# Altium integrated library Texas Instruments Power Management PWM Controller.IntLib: 1227 symbols (part 32 of 49)
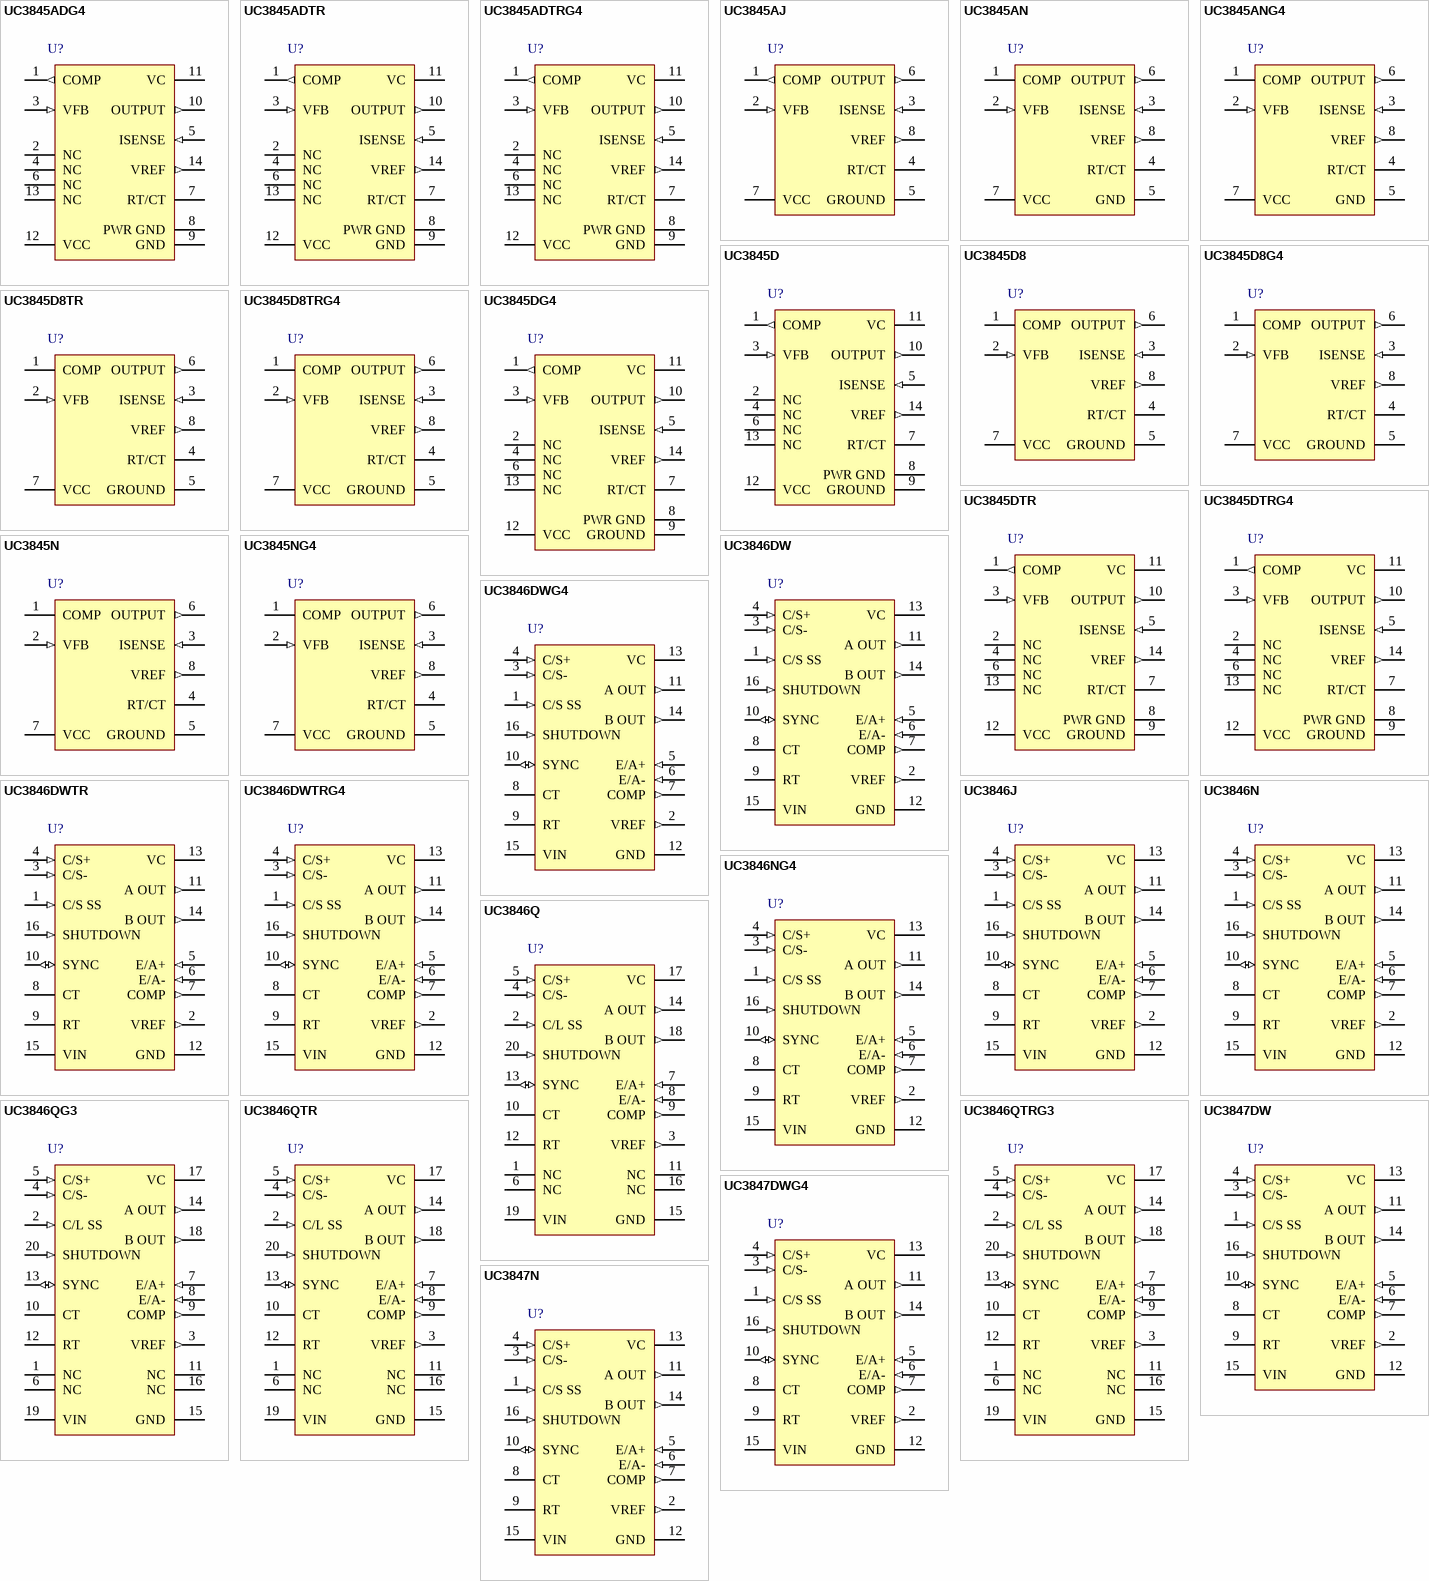
[diagram p74: symbols UC3845ADG4 to UC3847N]

## UC3846QTR
designator U?
PWM Controller with Current Control, 50 % Duty Cycle, 0 to +70 degC, 20-pin PLCC (FN), Green (RoHS & no Sb/Br); PartNumber: UC3846QTR; Manufacturer: Texas Instruments; Duty Cycle(Max)(%): 50; Frequency(Max)(kHz): 450; Rating: Catalog; Regulated Outputs(#): 2; Topology: Boost, Buck, Flyback, Forward, Full-Bridge, Half-Bridge, Push-Pull; UVLO Thresholds On/Off(V): 7.7/6.95; DatasheetVersion: SLUS352B; PackageVersion: revB, Mar-1995; PackageReference: FN20; PackageDescription: 20-Pin Plastic Leaded Chip Carrier, 1.27 mm Pitch; Supplier 1: Digi-Key; Supplier Part Number 1: UC3846QTR-ND; Supplier 2: Newark; Supplier Part Number 2: 77C3337; Supplier 3: Mouser; Supplier Part Number 3: 595-UC3846QTR; Control Method: Current; Eco-Plan: Green (RoHS & no Sb/Br); SubFamily: PWM Controller; Mounting Technology: Surface Mount; Code_JEDEC: MS-018; ComponentLink1Description: Datasheet; ComponentLink1URL: http://www.ti.com/general/docs/lit/getliterature.tsp?genericPartNumber=UC3846&fileType=pdf
footprint FN20_N (Leaded Chip Carrier, 20-Leads, Body 9x9mm, Pitch 1.27mm, IPC Medium Density)
footprint FN20_L (Leaded Chip Carrier, 20-Leads, Body 9x9mm, Pitch 1.27mm, IPC High Density)
footprint FN20_M (Leaded Chip Carrier, 20-Leads, Body 9x9mm, Pitch 1.27mm, IPC Low Density)
pins: 1 NC, 2 C/L SS (in), 3 VREF (out), 4 C/S- (in), 5 C/S+ (in), 6 NC, 7 E/A+ (in), 8 E/A- (in), 9 COMP (out), 10 CT, 11 NC, 12 RT, 13 SYNC (io), 14 A OUT (out), 15 GND (power), 16 NC, 17 VC (power), 18 B OUT (out), 19 VIN (power), 20 SHUTDOWN (in)

## UC3846QTRG3
designator U?
PWM Controller with Current Control, 50 % Duty Cycle, 0 to +70 degC, 20-pin PLCC (FN), Green (RoHS & no Sb/Br); PartNumber: UC3846QTRG3; Manufacturer: Texas Instruments; Duty Cycle(Max)(%): 50; Frequency(Max)(kHz): 450; Rating: Catalog; Regulated Outputs(#): 2; Topology: Boost, Buck, Flyback, Forward, Full-Bridge, Half-Bridge, Push-Pull; UVLO Thresholds On/Off(V): 7.7/6.95; DatasheetVersion: SLUS352B; PackageVersion: revB, Mar-1995; PackageReference: FN20; PackageDescription: 20-Pin Plastic Leaded Chip Carrier, 1.27 mm Pitch; Supplier 1: Digi-Key; Supplier Part Number 1: UC3846QTRG3-ND; Supplier 2: Newark; Supplier Part Number 2: 70K6023; Supplier 3: Mouser; Supplier Part Number 3: 595-UC3846QTRG3; Control Method: Current; Eco-Plan: Green (RoHS & no Sb/Br); SubFamily: PWM Controller; Mounting Technology: Surface Mount; Code_JEDEC: MS-018; ComponentLink1Description: Datasheet; ComponentLink1URL: http://www.ti.com/general/docs/lit/getliterature.tsp?genericPartNumber=UC3846&fileType=pdf
footprint FN20_N (Leaded Chip Carrier, 20-Leads, Body 9x9mm, Pitch 1.27mm, IPC Medium Density)
footprint FN20_L (Leaded Chip Carrier, 20-Leads, Body 9x9mm, Pitch 1.27mm, IPC High Density)
footprint FN20_M (Leaded Chip Carrier, 20-Leads, Body 9x9mm, Pitch 1.27mm, IPC Low Density)
pins: 1 NC, 2 C/L SS (in), 3 VREF (out), 4 C/S- (in), 5 C/S+ (in), 6 NC, 7 E/A+ (in), 8 E/A- (in), 9 COMP (out), 10 CT, 11 NC, 12 RT, 13 SYNC (io), 14 A OUT (out), 15 GND (power), 16 NC, 17 VC (power), 18 B OUT (out), 19 VIN (power), 20 SHUTDOWN (in)

## UC3847DW
designator U?
PWM Controller with Current Control, 50 % Duty Cycle, 0 to +70 degC, 16-pin SOIC (DW), Green (RoHS & no Sb/Br); PartNumber: UC3847DW; Manufacturer: Texas Instruments; Duty Cycle(Max)(%): 50; Frequency(Max)(kHz): 450; Rating: Military; Regulated Outputs(#): 2; Topology: Boost, Flyback, Forward, Full-Bridge, Half-Bridge, Push-Pull; UVLO Thresholds On/Off(V): 7.7/6.95; DatasheetVersion: SLUS352B; PackageVersion: revG, Jan-2011; PackageReference: DW16; PackageDescription: 16-Pin Small Outline Integrated Circuit, 10.3 x 7.5 mm, Pitch 1.27 mm Pitch; Supplier 1: Digi-Key; Supplier Part Number 1: 296-11302-5-ND; Supplier 2: Newark; Supplier Part Number 2: 77C3338; Supplier 3: Mouser; Supplier Part Number 3: 595-UC3847DW; Control Method: Current; Eco-Plan: Green (RoHS & no Sb/Br); SubFamily: PWM Controller; Mounting Technology: Surface Mount; Code_JEDEC: MS-013-AA; ComponentLink1Description: Datasheet; ComponentLink1URL: http://www.ti.com/general/docs/lit/getliterature.tsp?genericPartNumber=UC3847&fileType=pdf
footprint DW16_N (SOIC, 16-Leads, Body 10.3x7.5mm, Pitch 1.27mm, IPC Medium Density)
footprint DW16_L (SOIC, 16-Leads, Body 10.3x7.5mm, Pitch 1.27mm, IPC High Density)
footprint DW16_M (SOIC, 16-Leads, Body 10.3x7.5mm, Pitch 1.27mm, IPC Low Density)
pins: 1 C/S SS (in), 2 VREF (out), 3 C/S- (in), 4 C/S+ (in), 5 E/A+ (in), 6 E/A- (in), 7 COMP (out), 8 CT, 9 RT, 10 SYNC (io), 11 A OUT (out), 12 GND (power), 13 VC (power), 14 B OUT (out), 15 VIN (power), 16 SHUTDOWN (in)

## UC3847DWG4
designator U?
PWM Controller with Current Control, 50 % Duty Cycle, 0 to +70 degC, 16-pin SOIC (DW), Green (RoHS & no Sb/Br); PartNumber: UC3847DWG4; Manufacturer: Texas Instruments; Duty Cycle(Max)(%): 50; Frequency(Max)(kHz): 450; Rating: Military; Regulated Outputs(#): 2; Topology: Boost, Flyback, Forward, Full-Bridge, Half-Bridge, Push-Pull; UVLO Thresholds On/Off(V): 7.7/6.95; DatasheetVersion: SLUS352B; PackageVersion: revG, Jan-2011; PackageReference: DW16; PackageDescription: 16-Pin Small Outline Integrated Circuit, 10.3 x 7.5 mm, Pitch 1.27 mm Pitch; Supplier 1: Digi-Key; Supplier Part Number 1: UC3847DWG4-ND; Supplier 2: Newark; Supplier Part Number 2: 18M3330; Supplier 3: Mouser; Supplier Part Number 3: 595-UC3847DWG4; Control Method: Current; Eco-Plan: Green (RoHS & no Sb/Br); SubFamily: PWM Controller; Mounting Technology: Surface Mount; Code_JEDEC: MS-013-AA; ComponentLink1Description: Datasheet; ComponentLink1URL: http://www.ti.com/general/docs/lit/getliterature.tsp?genericPartNumber=UC3847&fileType=pdf
footprint DW16_N (SOIC, 16-Leads, Body 10.3x7.5mm, Pitch 1.27mm, IPC Medium Density)
footprint DW16_L (SOIC, 16-Leads, Body 10.3x7.5mm, Pitch 1.27mm, IPC High Density)
footprint DW16_M (SOIC, 16-Leads, Body 10.3x7.5mm, Pitch 1.27mm, IPC Low Density)
pins: 1 C/S SS (in), 2 VREF (out), 3 C/S- (in), 4 C/S+ (in), 5 E/A+ (in), 6 E/A- (in), 7 COMP (out), 8 CT, 9 RT, 10 SYNC (io), 11 A OUT (out), 12 GND (power), 13 VC (power), 14 B OUT (out), 15 VIN (power), 16 SHUTDOWN (in)

## UC3847N
designator U?
PWM Controller with Current Control, 50 % Duty Cycle, 0 to +70 degC, 16-pin PDIP (N), Green (RoHS & no Sb/Br); PartNumber: UC3847N; Manufacturer: Texas Instruments; Duty Cycle(Max)(%): 50; Frequency(Max)(kHz): 450; Rating: Military; Regulated Outputs(#): 2; Topology: Boost, Flyback, Forward, Full-Bridge, Half-Bridge, Push-Pull; UVLO Thresholds On/Off(V): 7.7/6.95; DatasheetVersion: SLUS352B; PackageVersion: revE, Dec-2002; PackageReference: N16; PackageDescription: 16-Pin Plastic Dual-In-Line Package, Row Spacing 7.62 mm, Pitch 2.54 mm; Supplier 1: Digi-Key; Supplier Part Number 1: 296-11303-5-ND; Supplier 2: Newark; Supplier Part Number 2: 77C3340; Supplier 3: Mouser; Supplier Part Number 3: 595-UC3847N; Control Method: Current; Eco-Plan: Green (RoHS & no Sb/Br); SubFamily: PWM Controller; Mounting Technology: Through Hole; Code_JEDEC: MS-001*; ComponentLink1Description: Datasheet; ComponentLink1URL: http://www.ti.com/general/docs/lit/getliterature.tsp?genericPartNumber=UC3847&fileType=pdf
footprint N16 (DIP, 16-Leads, Row Spacing 7.62mm, Pitch 2.54mm, Body 19.3x6.4mm)
pins: 1 C/S SS (in), 2 VREF (out), 3 C/S- (in), 4 C/S+ (in), 5 E/A+ (in), 6 E/A- (in), 7 COMP (out), 8 CT, 9 RT, 10 SYNC (io), 11 A OUT (out), 12 GND (power), 13 VC (power), 14 B OUT (out), 15 VIN (power), 16 SHUTDOWN (in)

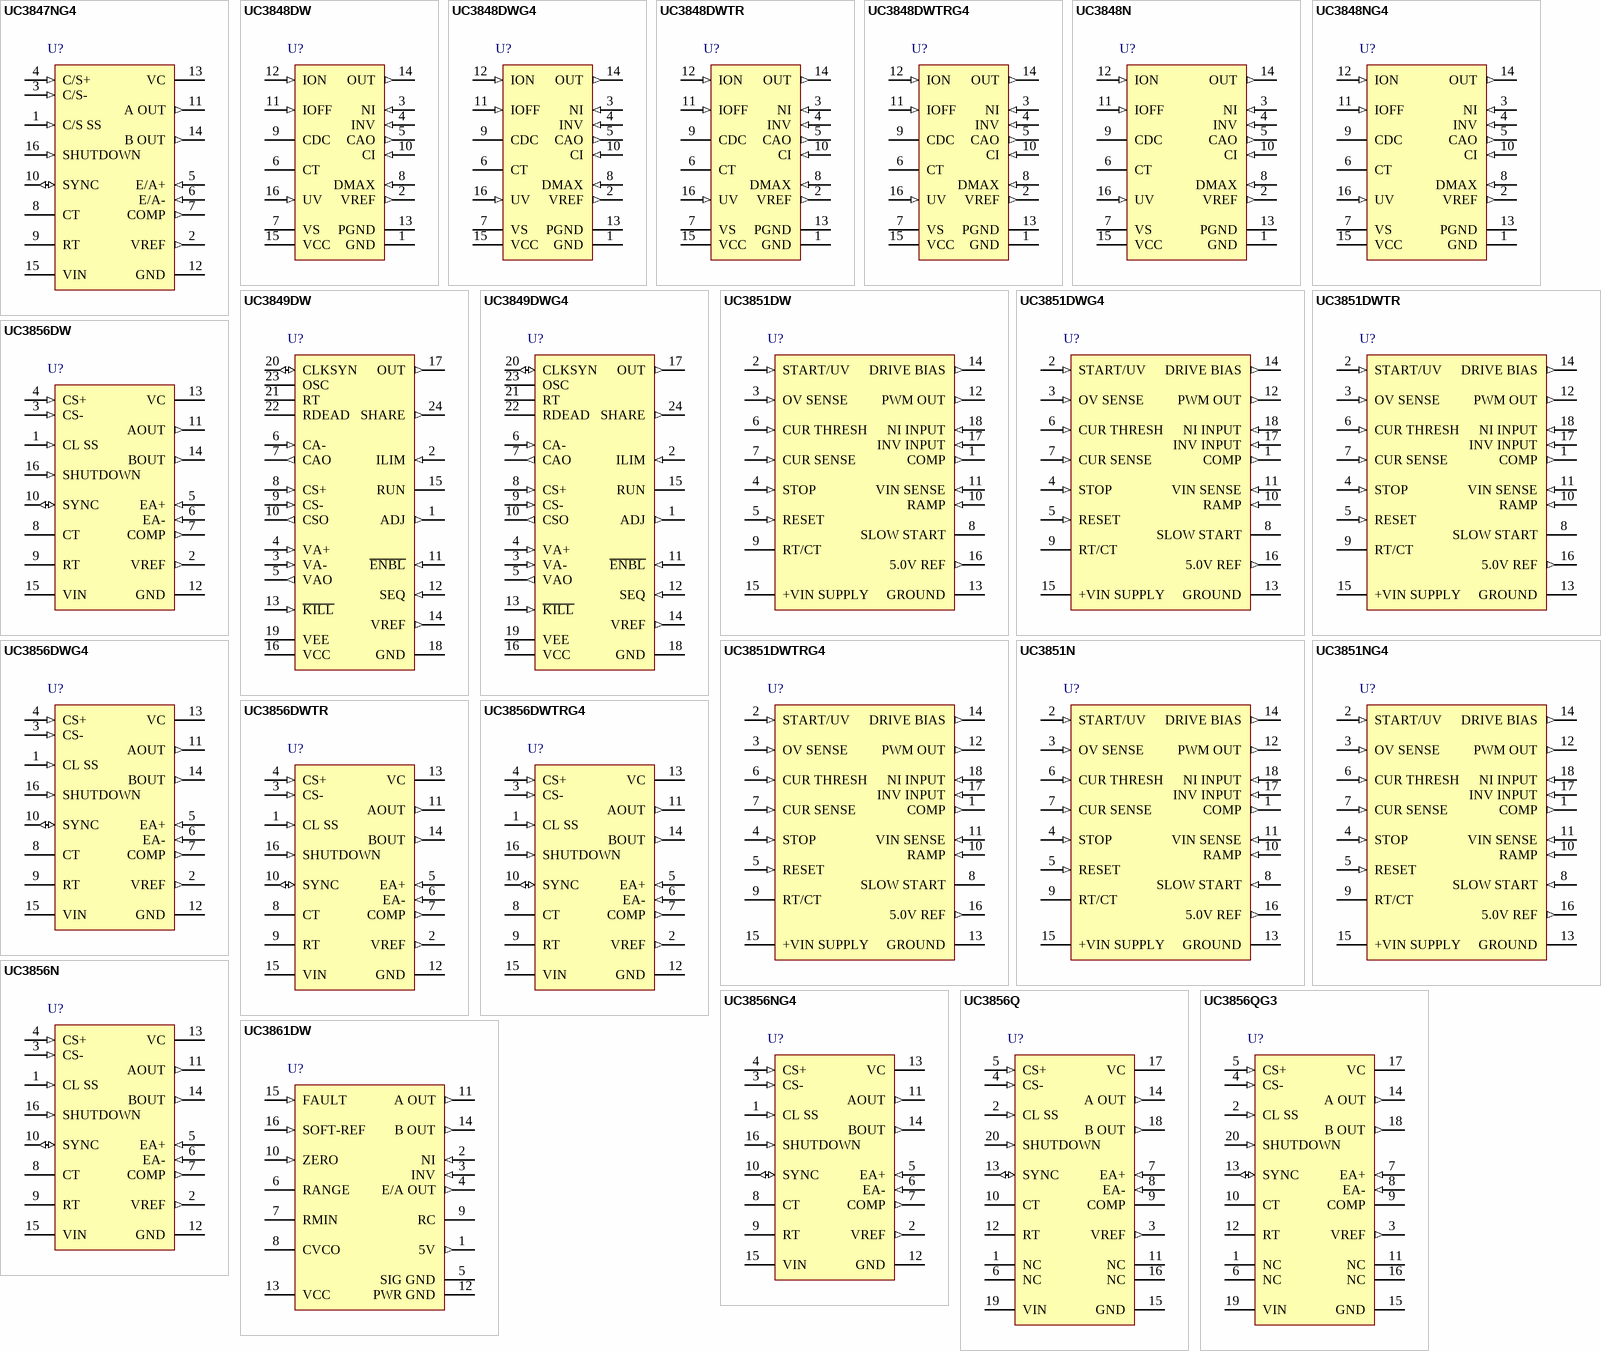
[diagram p34: symbols UC3847NG4 to UC3861DW]

## UC3847NG4
designator U?
PWM Controller with Current Control, 50 % Duty Cycle, 0 to +70 degC, 16-pin PDIP (N), Green (RoHS & no Sb/Br); PartNumber: UC3847NG4; Manufacturer: Texas Instruments; Duty Cycle(Max)(%): 50; Frequency(Max)(kHz): 450; Rating: Military; Regulated Outputs(#): 2; Topology: Boost, Flyback, Forward, Full-Bridge, Half-Bridge, Push-Pull; UVLO Thresholds On/Off(V): 7.7/6.95; DatasheetVersion: SLUS352B; PackageVersion: revE, Dec-2002; PackageReference: N16; PackageDescription: 16-Pin Plastic Dual-In-Line Package, Row Spacing 7.62 mm, Pitch 2.54 mm; Supplier 1: Digi-Key; Supplier Part Number 1: UC3847NG4-ND; Supplier 2: Newark; Supplier Part Number 2: 18M3331; Supplier 3: Mouser; Supplier Part Number 3: 595-UC3847NG4; Control Method: Current; Eco-Plan: Green (RoHS & no Sb/Br); SubFamily: PWM Controller; Mounting Technology: Through Hole; Code_JEDEC: MS-001*; ComponentLink1Description: Datasheet; ComponentLink1URL: http://www.ti.com/general/docs/lit/getliterature.tsp?genericPartNumber=UC3847&fileType=pdf
footprint N16 (DIP, 16-Leads, Row Spacing 7.62mm, Pitch 2.54mm, Body 19.3x6.4mm)
pins: 1 C/S SS (in), 2 VREF (out), 3 C/S- (in), 4 C/S+ (in), 5 E/A+ (in), 6 E/A- (in), 7 COMP (out), 8 CT, 9 RT, 10 SYNC (io), 11 A OUT (out), 12 GND (power), 13 VC (power), 14 B OUT (out), 15 VIN (power), 16 SHUTDOWN (in)

## UC3848DW
designator U?
Average PWM Controller with Current Control, 100 % Duty Cycle, 0 to +70 degC, 16-pin SOIC (DW), Green (RoHS & no Sb/Br); PartNumber: UC3848DW; Manufacturer: Texas Instruments; Duty Cycle(Max)(%): 100; Frequency(Max)(kHz): 450; Rating: Catalog; Regulated Outputs(#): 1; Topology: Boost, Flyback, Forward; UVLO Thresholds On/Off(V): 13/10; DatasheetVersion: SLUS225A; PackageVersion: revG, Jan-2011; PackageReference: DW16; PackageDescription: 16-Pin Small Outline Integrated Circuit, 10.3 x 7.5 mm, Pitch 1.27 mm Pitch; Supplier 1: Digi-Key; Supplier Part Number 1: 296-11304-5-ND; Supplier 2: Newark; Supplier Part Number 2: 77C3341; Supplier 3: Mouser; Supplier Part Number 3: 595-UC3848DW; Control Method: Current; Eco-Plan: Green (RoHS & no Sb/Br); SubFamily: PWM Controller; Mounting Technology: Surface Mount; Code_JEDEC: MS-013-AA; ComponentLink1Description: Datasheet; ComponentLink1URL: http://www.ti.com/general/docs/lit/getliterature.tsp?genericPartNumber=UC3848&fileType=pdf
footprint DW16_N (SOIC, 16-Leads, Body 10.3x7.5mm, Pitch 1.27mm, IPC Medium Density)
footprint DW16_L (SOIC, 16-Leads, Body 10.3x7.5mm, Pitch 1.27mm, IPC High Density)
footprint DW16_M (SOIC, 16-Leads, Body 10.3x7.5mm, Pitch 1.27mm, IPC Low Density)
pins: 1 GND (power), 2 VREF (out), 3 NI (in), 4 INV (in), 5 CAO (out), 6 CT, 7 VS (power), 8 DMAX (in), 9 CDC, 10 CI (in), 11 IOFF (in), 12 ION (in), 13 PGND (power), 14 OUT (out), 15 VCC (power), 16 UV (in)

## UC3848DWG4
designator U?
Average PWM Controller with Current Control, 100 % Duty Cycle, 0 to +70 degC, 16-pin SOIC (DW), Green (RoHS & no Sb/Br); PartNumber: UC3848DWG4; Manufacturer: Texas Instruments; Duty Cycle(Max)(%): 100; Frequency(Max)(kHz): 450; Rating: Catalog; Regulated Outputs(#): 1; Topology: Boost, Flyback, Forward; UVLO Thresholds On/Off(V): 13/10; DatasheetVersion: SLUS225A; PackageVersion: revG, Jan-2011; PackageReference: DW16; PackageDescription: 16-Pin Small Outline Integrated Circuit, 10.3 x 7.5 mm, Pitch 1.27 mm Pitch; Supplier 1: Digi-Key; Supplier Part Number 1: UC3848DWG4-ND; Supplier 2: Newark; Supplier Part Number 2: 14M4027; Supplier 3: Mouser; Supplier Part Number 3: 595-UC3848DWG4; Control Method: Current; Eco-Plan: Green (RoHS & no Sb/Br); SubFamily: PWM Controller; Mounting Technology: Surface Mount; Code_JEDEC: MS-013-AA; ComponentLink1Description: Datasheet; ComponentLink1URL: http://www.ti.com/general/docs/lit/getliterature.tsp?genericPartNumber=UC3848&fileType=pdf
footprint DW16_N (SOIC, 16-Leads, Body 10.3x7.5mm, Pitch 1.27mm, IPC Medium Density)
footprint DW16_L (SOIC, 16-Leads, Body 10.3x7.5mm, Pitch 1.27mm, IPC High Density)
footprint DW16_M (SOIC, 16-Leads, Body 10.3x7.5mm, Pitch 1.27mm, IPC Low Density)
pins: 1 GND (power), 2 VREF (out), 3 NI (in), 4 INV (in), 5 CAO (out), 6 CT, 7 VS (power), 8 DMAX (in), 9 CDC, 10 CI (in), 11 IOFF (in), 12 ION (in), 13 PGND (power), 14 OUT (out), 15 VCC (power), 16 UV (in)

## UC3848DWTR
designator U?
Average PWM Controller with Current Control, 100 % Duty Cycle, 0 to +70 degC, 16-pin SOIC (DW), Green (RoHS & no Sb/Br); PartNumber: UC3848DWTR; Manufacturer: Texas Instruments; Duty Cycle(Max)(%): 100; Frequency(Max)(kHz): 450; Rating: Catalog; Regulated Outputs(#): 1; Topology: Boost, Flyback, Forward; UVLO Thresholds On/Off(V): 13/10; DatasheetVersion: SLUS225A; PackageVersion: revG, Jan-2011; PackageReference: DW16; PackageDescription: 16-Pin Small Outline Integrated Circuit, 10.3 x 7.5 mm, Pitch 1.27 mm Pitch; Supplier 1: Digi-Key; Supplier Part Number 1: UC3848DWTR-ND; Supplier 2: Newark; Supplier Part Number 2: 77C3342; Supplier 3: Mouser; Supplier Part Number 3: 595-UC3848DWTR; Control Method: Current; Eco-Plan: Green (RoHS & no Sb/Br); SubFamily: PWM Controller; Mounting Technology: Surface Mount; Code_JEDEC: MS-013-AA; ComponentLink1Description: Datasheet; ComponentLink1URL: http://www.ti.com/general/docs/lit/getliterature.tsp?genericPartNumber=UC3848&fileType=pdf
footprint DW16_N (SOIC, 16-Leads, Body 10.3x7.5mm, Pitch 1.27mm, IPC Medium Density)
footprint DW16_L (SOIC, 16-Leads, Body 10.3x7.5mm, Pitch 1.27mm, IPC High Density)
footprint DW16_M (SOIC, 16-Leads, Body 10.3x7.5mm, Pitch 1.27mm, IPC Low Density)
pins: 1 GND (power), 2 VREF (out), 3 NI (in), 4 INV (in), 5 CAO (out), 6 CT, 7 VS (power), 8 DMAX (in), 9 CDC, 10 CI (in), 11 IOFF (in), 12 ION (in), 13 PGND (power), 14 OUT (out), 15 VCC (power), 16 UV (in)

## UC3848DWTRG4
designator U?
Average PWM Controller with Current Control, 100 % Duty Cycle, 0 to +70 degC, 16-pin SOIC (DW), Green (RoHS & no Sb/Br); PartNumber: UC3848DWTRG4; Manufacturer: Texas Instruments; Duty Cycle(Max)(%): 100; Frequency(Max)(kHz): 450; Rating: Catalog; Regulated Outputs(#): 1; Topology: Boost, Flyback, Forward; UVLO Thresholds On/Off(V): 13/10; DatasheetVersion: SLUS225A; PackageVersion: revG, Jan-2011; PackageReference: DW16; PackageDescription: 16-Pin Small Outline Integrated Circuit, 10.3 x 7.5 mm, Pitch 1.27 mm Pitch; Supplier 1: Digi-Key; Supplier Part Number 1: UC3848DWTRG4-ND; Supplier 2: Newark; Supplier Part Number 2: 63K6746; Supplier 3: Mouser; Supplier Part Number 3: 595-UC3848DWTRG4; Control Method: Current; Eco-Plan: Green (RoHS & no Sb/Br); SubFamily: PWM Controller; Mounting Technology: Surface Mount; Code_JEDEC: MS-013-AA; ComponentLink1Description: Datasheet; ComponentLink1URL: http://www.ti.com/general/docs/lit/getliterature.tsp?genericPartNumber=UC3848&fileType=pdf
footprint DW16_N (SOIC, 16-Leads, Body 10.3x7.5mm, Pitch 1.27mm, IPC Medium Density)
footprint DW16_L (SOIC, 16-Leads, Body 10.3x7.5mm, Pitch 1.27mm, IPC High Density)
footprint DW16_M (SOIC, 16-Leads, Body 10.3x7.5mm, Pitch 1.27mm, IPC Low Density)
pins: 1 GND (power), 2 VREF (out), 3 NI (in), 4 INV (in), 5 CAO (out), 6 CT, 7 VS (power), 8 DMAX (in), 9 CDC, 10 CI (in), 11 IOFF (in), 12 ION (in), 13 PGND (power), 14 OUT (out), 15 VCC (power), 16 UV (in)

## UC3848N
designator U?
Average PWM Controller with Current Control, 100 % Duty Cycle, 0 to +70 degC, 16-pin PDIP (N), Green (RoHS & no Sb/Br); PartNumber: UC3848N; Manufacturer: Texas Instruments; Duty Cycle(Max)(%): 100; Frequency(Max)(kHz): 450; Rating: Catalog; Regulated Outputs(#): 1; Topology: Boost, Flyback, Forward; UVLO Thresholds On/Off(V): 13/10; DatasheetVersion: SLUS225A; PackageVersion: revE, Dec-2002; PackageReference: N16; PackageDescription: 16-Pin Plastic Dual-In-Line Package, Row Spacing 7.62 mm, Pitch 2.54 mm; Supplier 1: Digi-Key; Supplier Part Number 1: 296-34738-5-ND; Supplier 2: Newark; Supplier Part Number 2: 77C3343; Supplier 3: Mouser; Supplier Part Number 3: 595-UC3848N; Control Method: Current; Eco-Plan: Green (RoHS & no Sb/Br); SubFamily: PWM Controller; Mounting Technology: Through Hole; Code_JEDEC: MS-001*; ComponentLink1Description: Datasheet; ComponentLink1URL: http://www.ti.com/general/docs/lit/getliterature.tsp?genericPartNumber=UC3848&fileType=pdf
footprint N16 (DIP, 16-Leads, Row Spacing 7.62mm, Pitch 2.54mm, Body 19.3x6.4mm)
pins: 1 GND (power), 2 VREF (out), 3 NI (in), 4 INV (in), 5 CAO (out), 6 CT, 7 VS (power), 8 DMAX (in), 9 CDC, 10 CI (in), 11 IOFF (in), 12 ION (in), 13 PGND (power), 14 OUT (out), 15 VCC (power), 16 UV (in)

## UC3848NG4
designator U?
Average PWM Controller with Current Control, 100 % Duty Cycle, 0 to +70 degC, 16-pin PDIP (N), Green (RoHS & no Sb/Br); PartNumber: UC3848NG4; Manufacturer: Texas Instruments; Duty Cycle(Max)(%): 100; Frequency(Max)(kHz): 450; Rating: Catalog; Regulated Outputs(#): 1; Topology: Boost, Flyback, Forward; UVLO Thresholds On/Off(V): 13/10; DatasheetVersion: SLUS225A; PackageVersion: revE, Dec-2002; PackageReference: N16; PackageDescription: 16-Pin Plastic Dual-In-Line Package, Row Spacing 7.62 mm, Pitch 2.54 mm; Supplier 1: Digi-Key; Supplier Part Number 1: UC3848NG4-ND; Supplier 2: Newark; Supplier Part Number 2: 73K9711; Supplier 3: Mouser; Supplier Part Number 3: 595-UC3848NG4; Control Method: Current; Eco-Plan: Green (RoHS & no Sb/Br); SubFamily: PWM Controller; Mounting Technology: Through Hole; Code_JEDEC: MS-001*; ComponentLink1Description: Datasheet; ComponentLink1URL: http://www.ti.com/general/docs/lit/getliterature.tsp?genericPartNumber=UC3848&fileType=pdf
footprint N16 (DIP, 16-Leads, Row Spacing 7.62mm, Pitch 2.54mm, Body 19.3x6.4mm)
pins: 1 GND (power), 2 VREF (out), 3 NI (in), 4 INV (in), 5 CAO (out), 6 CT, 7 VS (power), 8 DMAX (in), 9 CDC, 10 CI (in), 11 IOFF (in), 12 ION (in), 13 PGND (power), 14 OUT (out), 15 VCC (power), 16 UV (in)

## UC3849DW
designator U?
Secondary Side Average Current Mode Controller, 85 % Duty Cycle, 0 to +70 degC, 24-pin SOIC (DW), Green (RoHS & no Sb/Br); PartNumber: UC3849DW; Manufacturer: Texas Instruments; Duty Cycle(Max)(%): 85; Frequency(Max)(kHz): 1000; Rating: Catalog; Regulated Outputs(#): 1; SubFamily: PWM Controller; DatasheetVersion: SLUS360C; PackageVersion: revG, Jan-2011; PackageReference: DW24; PackageDescription: 24-Pin Plastic Small Outline Integrated Circuit, 15.4 x 7.5 mm, Pitch 1.27 mm Pitch; Supplier 1: Digi-Key; Supplier Part Number 1: 296-2525-5-ND; Supplier 2: Newark; Supplier Part Number 2: 77C3344; Supplier 3: Mouser; Supplier Part Number 3: 595-UC3849DW; Eco-Plan: Green (RoHS & no Sb/Br); Mounting Technology: Surface Mount; Code_JEDEC: MS-013AD; ComponentLink1Description: Datasheet; ComponentLink1URL: http://www.ti.com/general/docs/lit/getliterature.tsp?genericPartNumber=UC3849&fileType=pdf
footprint DW24_N (SOIC, 24-Leads, Body 15.4x7.5mm, Pitch 1.27mm, IPC Medium Density)
footprint DW24_L (SOIC, 24-Leads, Body 15.4x7.5mm, Pitch 1.27mm, IPC High Density)
footprint DW24_M (SOIC, 24-Leads, Body 15.4x7.5mm, Pitch 1.27mm, IPC Low Density)
pins: 1 ADJ (out) "The output of the transconductance (gm = -1 ms) amplifier adjusts the control voltage to maintain equal current sharing. The chip sensing the highest output current will have its output clamped to 1 V. A resistor divider (See Datasheet)", 2 ILIM (in) "A voltage on this pin programs the voltage error amplifier’s Voh clamp. The voltage error amplifier output represents the average output current. The Voh clamp consequently limits the output current. If ILIM is tied to VREF, (See Datasheet)", 3 VA- (in) "The inverting input to the voltage error amplifier.", 4 VA+ (in) "The non-inverting input to the voltage error amplifier.", 5 VAO (out) "The output of the voltage error amplifier. Its Voh is clamped with the ILIM pin.", 6 CA- (in) "The inverting input to the current error amplifier. This amplifier needs a capacitor between CA- and CAO to set its dominant pole.", 7 CAO (out) "The output of the current error amplifier which is internally clamped to 4 V. It is internally connected to the inverting input of the PWM comparator.", 8 CS+ (in) "ThE non-inverting input to the current sense amplifier. This amplifier is not internally compensated so the user must compensate externally to attain the highest GBW for the application.", 9 CS- (in) "The inverting input to the current sense amplifier. This amplifier is not internally compensated so the user must compensate externally to attain the highest GBW for the application.", 10 CSO (out) "The output of the current sense amplifier which is internally clamped to 4 V.", 11 ~{ENBL} (in) "The active low input with a 2.5-V threshold enables the output to switch. SEQ and RUN are driven low when E\N\B\L\ is above its 2.5-V threshold.", 12 SEQ (in) "The sequence pin allows the sequencing of startup for multiple units. A resistor between VREF and SEQ and a capacitor between SEQ and GND creates a unique RC rise time for each unit which sequences the output startup.", 13 ~{KILL} (in) "The active low input with a 3.0-V threshold stops the output from switching. Once this function is activated RUN must be cycled low by driving K\I\L\L\ above 3.0 V and either resetting the power to the chip (VCC) or (See Datasheet)", 14 VREF (out) "The reference voltage equal to 5.0 V.", 15 RUN (oc) "This is an open collector logic output that signifies when the chip is operational. RUN is pulled high to VREF through an external resistor when VCC is greater than 8.4 V, VREF is greater than 4.65 V, SEQ is greater than 2.5 (See Datasheet)", 16 VCC (power) "The input voltage of the chip. The chip is operational between 8.4 V and 20 V.", 17 OUT (out) "The output of the PWM driver. It has an upper clamp of 8.5 V. The peak current sink and source are 250 mA. All UVLO, SEQ, E\N\B\L\, and K\I\L\L\ logic either enable or disable the output driver.", 18 GND (power) "The signal ground used for the voltage sense amplifier, current sense amplifier, current error amplifier, voltage reference, 2X amplifier, and share amplifier. The output sink transistor is wired directly to this pin.", 19 VEE (power) "The negative supply to the chip which powers the lower voltage rail for all amplifiers. The chip is operational if VEE is connected to GND or if GND is floating. When voltage is applied externally to VEE, GND becomes a (See Datasheet)", 20 CLKSYN (io) "The clock and synchronization pin for the oscillator. This is a bidirectional pin that can be used to synchronize several chips to the fastest oscillator. Its input synchronization threshold is 1.4 V. The CLKSYN voltage is 3.(See Datasheet)", 21 RT "This pin programs the charge time of the oscillator ramp.", 22 RDEAD "The pin that programs the maximum duty cycle by connecting a resistor between it and OSC. The maximum duty cycle is decreased by increasing this resistor value which increases the discharge time. The dead time, the time when (See Datasheet)", 23 OSC "The oscillator ramp pin which has a capacitor (CT) to ground and a resistor (RDEAD) to the RDEAD pin programs its maximum duty cycle by programming a minimum dead time. The ramp oscillates between 1.2 V to 3.4 V when an (See Datasheet)", 24 SHARE (out) "The nearly dc voltage representing the average output current. This pin is wired directly to all SHARE pins and is the load share bus."

## UC3849DWG4
designator U?
Secondary Side Average Controller with Current Control, 85 % Duty Cycle, 0 to +70 degC, 24-pin SOIC (DW), Green (RoHS & no Sb/Br); PartNumber: UC3849DWG4; Manufacturer: Texas Instruments; Duty Cycle(Max)(%): 85; Frequency(Max)(kHz): 1000; Rating: Catalog; Regulated Outputs(#): 1; SubFamily: PWM Controller; DatasheetVersion: SLUS360C; PackageVersion: revG, Jan-2011; PackageReference: DW24; PackageDescription: 24-Pin Plastic Small Outline Integrated Circuit, 15.4 x 7.5 mm, Pitch 1.27 mm Pitch; Supplier 1: Digi-Key; Supplier Part Number 1: UC3849DWG4-ND; Supplier 2: Newark; Supplier Part Number 2: 73K9712; Supplier 3: Mouser; Supplier Part Number 3: 595-UC3849DWG4; Eco-Plan: Green (RoHS & no Sb/Br); Mounting Technology: Surface Mount; Code_JEDEC: MS-013AD; ComponentLink1Description: Datasheet; ComponentLink1URL: http://www.ti.com/general/docs/lit/getliterature.tsp?genericPartNumber=UC3849&fileType=pdf
footprint DW24_N (SOIC, 24-Leads, Body 15.4x7.5mm, Pitch 1.27mm, IPC Medium Density)
footprint DW24_L (SOIC, 24-Leads, Body 15.4x7.5mm, Pitch 1.27mm, IPC High Density)
footprint DW24_M (SOIC, 24-Leads, Body 15.4x7.5mm, Pitch 1.27mm, IPC Low Density)
pins: 1 ADJ (out) "The output of the transconductance (gm = -1 ms) amplifier adjusts the control voltage to maintain equal current sharing. The chip sensing the highest output current will have its output clamped to 1 V. A resistor divider (See Datasheet)", 2 ILIM (in) "A voltage on this pin programs the voltage error amplifier’s Voh clamp. The voltage error amplifier output represents the average output current. The Voh clamp consequently limits the output current. If ILIM is tied to VREF, (See Datasheet)", 3 VA- (in) "The inverting input to the voltage error amplifier.", 4 VA+ (in) "The non-inverting input to the voltage error amplifier.", 5 VAO (out) "The output of the voltage error amplifier. Its Voh is clamped with the ILIM pin.", 6 CA- (in) "The inverting input to the current error amplifier. This amplifier needs a capacitor between CA- and CAO to set its dominant pole.", 7 CAO (out) "The output of the current error amplifier which is internally clamped to 4 V. It is internally connected to the inverting input of the PWM comparator.", 8 CS+ (in) "ThE non-inverting input to the current sense amplifier. This amplifier is not internally compensated so the user must compensate externally to attain the highest GBW for the application.", 9 CS- (in) "The inverting input to the current sense amplifier. This amplifier is not internally compensated so the user must compensate externally to attain the highest GBW for the application.", 10 CSO (out) "The output of the current sense amplifier which is internally clamped to 4 V.", 11 ~{ENBL} (in) "The active low input with a 2.5-V threshold enables the output to switch. SEQ and RUN are driven low when E\N\B\L\ is above its 2.5-V threshold.", 12 SEQ (in) "The sequence pin allows the sequencing of startup for multiple units. A resistor between VREF and SEQ and a capacitor between SEQ and GND creates a unique RC rise time for each unit which sequences the output startup.", 13 ~{KILL} (in) "The active low input with a 3.0-V threshold stops the output from switching. Once this function is activated RUN must be cycled low by driving K\I\L\L\ above 3.0 V and either resetting the power to the chip (VCC) or (See Datasheet)", 14 VREF (out) "The reference voltage equal to 5.0 V.", 15 RUN (oc) "This is an open collector logic output that signifies when the chip is operational. RUN is pulled high to VREF through an external resistor when VCC is greater than 8.4 V, VREF is greater than 4.65 V, SEQ is greater than 2.5 (See Datasheet)", 16 VCC (power) "The input voltage of the chip. The chip is operational between 8.4 V and 20 V.", 17 OUT (out) "The output of the PWM driver. It has an upper clamp of 8.5 V. The peak current sink and source are 250 mA. All UVLO, SEQ, E\N\B\L\, and K\I\L\L\ logic either enable or disable the output driver.", 18 GND (power) "The signal ground used for the voltage sense amplifier, current sense amplifier, current error amplifier, voltage reference, 2X amplifier, and share amplifier. The output sink transistor is wired directly to this pin.", 19 VEE (power) "The negative supply to the chip which powers the lower voltage rail for all amplifiers. The chip is operational if VEE is connected to GND or if GND is floating. When voltage is applied externally to VEE, GND becomes a (See Datasheet)", 20 CLKSYN (io) "The clock and synchronization pin for the oscillator. This is a bidirectional pin that can be used to synchronize several chips to the fastest oscillator. Its input synchronization threshold is 1.4 V. The CLKSYN voltage is 3.(See Datasheet)", 21 RT "This pin programs the charge time of the oscillator ramp.", 22 RDEAD "The pin that programs the maximum duty cycle by connecting a resistor between it and OSC. The maximum duty cycle is decreased by increasing this resistor value which increases the discharge time. The dead time, the time when (See Datasheet)", 23 OSC "The oscillator ramp pin which has a capacitor (CT) to ground and a resistor (RDEAD) to the RDEAD pin programs its maximum duty cycle by programming a minimum dead time. The ramp oscillates between 1.2 V to 3.4 V when an (See Datasheet)", 24 SHARE (out) "The nearly dc voltage representing the average output current. This pin is wired directly to all SHARE pins and is the load share bus."

## UC3851DW
designator U?
Programmable, Off-Line, PWM Controller with Current, Voltage Control, 50 % Duty Cycle, 0 to +70 degC, 18-pin SOIC (DW), Green (RoHS & no Sb/Br); PartNumber: UC3851DW; Manufacturer: Texas Instruments; Duty Cycle(Max)(%): 50; Frequency(Max)(kHz): 450; Rating: Catalog; Regulated Outputs(#): 1; Topology: Boost, Buck, Flyback, Forward; DatasheetVersion: SLUS226; PackageVersion: revG, Jan-2011; PackageReference: DW18; PackageDescription: 18-Pin Plastic Small Outline Integrated Circuit, 11.6 x 7.5 mm, Pitch 1.27 mm Pitch; Supplier 1: Digi-Key; Supplier Part Number 1: 296-34739-5-ND; Supplier 2: Newark; Supplier Part Number 2: 77C3358; Supplier 3: Mouser; Supplier Part Number 3: 595-UC3851DW; Control Method: Current, Voltage; Eco-Plan: Green (RoHS & no Sb/Br); SubFamily: PWM Controller; UVLO Thresholds On/Off(V): 8/7.8; Mounting Technology: Surface Mount; Code_JEDEC: MS-013-AB; ComponentLink1Description: Datasheet; ComponentLink1URL: http://www.ti.com/general/docs/lit/getliterature.tsp?genericPartNumber=UC3851&fileType=pdf
footprint DW18_N (SOIC, 18-Leads, Body 11.6x7.5mm, Pitch 1.27mm, IPC Medium Density)
footprint DW18_L (SOIC, 18-Leads, Body 11.6x7.5mm, Pitch 1.27mm, IPC High Density)
footprint DW18_M (SOIC, 18-Leads, Body 11.6x7.5mm, Pitch 1.27mm, IPC Low Density)
pins: 1 COMP (out), 2 START/UV (in), 3 OV SENSE (in), 4 STOP (in), 5 RESET (in), 6 CUR THRESH (in), 7 CUR SENSE (in), 8 SLOW START, 9 RT/CT, 10 RAMP (in), 11 VIN SENSE (in), 12 PWM OUT (out), 13 GROUND (power), 14 DRIVE BIAS (out), 15 +VIN SUPPLY (power), 16 5.0V REF (out), 17 INV INPUT (in), 18 NI INPUT (in)

## UC3851DWG4
designator U?
Programmable, Off-Line, PWM Controller with Current, Voltage Control, 50 % Duty Cycle, 0 to +70 degC, 18-pin SOIC (DW), Green (RoHS & no Sb/Br); PartNumber: UC3851DWG4; Manufacturer: Texas Instruments; Duty Cycle(Max)(%): 50; Frequency(Max)(kHz): 450; Rating: Catalog; Regulated Outputs(#): 1; Topology: Boost, Buck, Flyback, Forward; DatasheetVersion: SLUS226; PackageVersion: revG, Jan-2011; PackageReference: DW18; PackageDescription: 18-Pin Plastic Small Outline Integrated Circuit, 11.6 x 7.5 mm, Pitch 1.27 mm Pitch; Supplier 1: Digi-Key; Supplier Part Number 1: UC3851DWG4-ND; Supplier 2: Newark; Supplier Part Number 2: 66K4928; Supplier 3: Mouser; Supplier Part Number 3: 595-UC3851DWG4; Control Method: Current, Voltage; Eco-Plan: Green (RoHS & no Sb/Br); SubFamily: PWM Controller; UVLO Thresholds On/Off(V): 8/7.8; Mounting Technology: Surface Mount; Code_JEDEC: MS-013-AB; ComponentLink1Description: Datasheet; ComponentLink1URL: http://www.ti.com/general/docs/lit/getliterature.tsp?genericPartNumber=UC3851&fileType=pdf
footprint DW18_N (SOIC, 18-Leads, Body 11.6x7.5mm, Pitch 1.27mm, IPC Medium Density)
footprint DW18_L (SOIC, 18-Leads, Body 11.6x7.5mm, Pitch 1.27mm, IPC High Density)
footprint DW18_M (SOIC, 18-Leads, Body 11.6x7.5mm, Pitch 1.27mm, IPC Low Density)
pins: 1 COMP (out), 2 START/UV (in), 3 OV SENSE (in), 4 STOP (in), 5 RESET (in), 6 CUR THRESH (in), 7 CUR SENSE (in), 8 SLOW START, 9 RT/CT, 10 RAMP (in), 11 VIN SENSE (in), 12 PWM OUT (out), 13 GROUND (power), 14 DRIVE BIAS (out), 15 +VIN SUPPLY (power), 16 5.0V REF (out), 17 INV INPUT (in), 18 NI INPUT (in)

## UC3851DWTR
designator U?
Programmable, Off-Line, PWM Controller with Current, Voltage Control, 50 % Duty Cycle, 0 to +70 degC, 18-pin SOIC (DW), Green (RoHS & no Sb/Br); PartNumber: UC3851DWTR; Manufacturer: Texas Instruments; Duty Cycle(Max)(%): 50; Frequency(Max)(kHz): 450; Rating: Catalog; Regulated Outputs(#): 1; Topology: Boost, Buck, Flyback, Forward; DatasheetVersion: SLUS226; PackageVersion: revG, Jan-2011; PackageReference: DW18; PackageDescription: 18-Pin Plastic Small Outline Integrated Circuit, 11.6 x 7.5 mm, Pitch 1.27 mm Pitch; Supplier 1: Digi-Key; Supplier Part Number 1: UC3851DWTR-ND; Supplier 2: Newark; Supplier Part Number 2: 77C3359; Supplier 3: Mouser; Supplier Part Number 3: 595-UC3851DWTR; Control Method: Current, Voltage; Eco-Plan: Green (RoHS & no Sb/Br); SubFamily: PWM Controller; UVLO Thresholds On/Off(V): 8/7.8; Mounting Technology: Surface Mount; Code_JEDEC: MS-013-AB; ComponentLink1Description: Datasheet; ComponentLink1URL: http://www.ti.com/general/docs/lit/getliterature.tsp?genericPartNumber=UC3851&fileType=pdf
footprint DW18_N (SOIC, 18-Leads, Body 11.6x7.5mm, Pitch 1.27mm, IPC Medium Density)
footprint DW18_L (SOIC, 18-Leads, Body 11.6x7.5mm, Pitch 1.27mm, IPC High Density)
footprint DW18_M (SOIC, 18-Leads, Body 11.6x7.5mm, Pitch 1.27mm, IPC Low Density)
pins: 1 COMP (out), 2 START/UV (in), 3 OV SENSE (in), 4 STOP (in), 5 RESET (in), 6 CUR THRESH (in), 7 CUR SENSE (in), 8 SLOW START, 9 RT/CT, 10 RAMP (in), 11 VIN SENSE (in), 12 PWM OUT (out), 13 GROUND (power), 14 DRIVE BIAS (out), 15 +VIN SUPPLY (power), 16 5.0V REF (out), 17 INV INPUT (in), 18 NI INPUT (in)

## UC3851DWTRG4
designator U?
Programmable, Off-Line, PWM Controller with Current, Voltage Control, 50 % Duty Cycle, 0 to +70 degC, 18-pin SOIC (DW), Green (RoHS & no Sb/Br); PartNumber: UC3851DWTRG4; Manufacturer: Texas Instruments; Duty Cycle(Max)(%): 50; Frequency(Max)(kHz): 450; Rating: Catalog; Regulated Outputs(#): 1; Topology: Boost, Buck, Flyback, Forward; DatasheetVersion: SLUS226; PackageVersion: revG, Jan-2011; PackageReference: DW18; PackageDescription: 18-Pin Plastic Small Outline Integrated Circuit, 11.6 x 7.5 mm, Pitch 1.27 mm Pitch; Supplier 1: Digi-Key; Supplier Part Number 1: UC3851DWTRG4-ND; Supplier 2: Newark; Supplier Part Number 2: 63K6747; Supplier 3: Mouser; Supplier Part Number 3: 595-UC3851DWTRG4; Control Method: Current, Voltage; Eco-Plan: Green (RoHS & no Sb/Br); SubFamily: PWM Controller; UVLO Thresholds On/Off(V): 8/7.8; Mounting Technology: Surface Mount; Code_JEDEC: MS-013-AB; ComponentLink1Description: Datasheet; ComponentLink1URL: http://www.ti.com/general/docs/lit/getliterature.tsp?genericPartNumber=UC3851&fileType=pdf
footprint DW18_N (SOIC, 18-Leads, Body 11.6x7.5mm, Pitch 1.27mm, IPC Medium Density)
footprint DW18_L (SOIC, 18-Leads, Body 11.6x7.5mm, Pitch 1.27mm, IPC High Density)
footprint DW18_M (SOIC, 18-Leads, Body 11.6x7.5mm, Pitch 1.27mm, IPC Low Density)
pins: 1 COMP (out), 2 START/UV (in), 3 OV SENSE (in), 4 STOP (in), 5 RESET (in), 6 CUR THRESH (in), 7 CUR SENSE (in), 8 SLOW START, 9 RT/CT, 10 RAMP (in), 11 VIN SENSE (in), 12 PWM OUT (out), 13 GROUND (power), 14 DRIVE BIAS (out), 15 +VIN SUPPLY (power), 16 5.0V REF (out), 17 INV INPUT (in), 18 NI INPUT (in)

## UC3851N
designator U?
Programmable, Off-Line, PWM Controller with Current, Voltage Control, 50 % Duty Cycle, 0 to +70 degC, 18-pin PDIP (N), Green (RoHS & no Sb/Br); PartNumber: UC3851N; Manufacturer: Texas Instruments; Duty Cycle(Max)(%): 50; Frequency(Max)(kHz): 450; Rating: Catalog; Regulated Outputs(#): 1; Topology: Boost, Buck, Flyback, Forward; DatasheetVersion: SLUS226; PackageVersion: revE, Dec-2002; PackageReference: N18; PackageDescription: 18-Pin Plastic Dual-In-Line Package, Row Spacing 7.62 mm, Pitch 2.54 mm; Supplier 1: Digi-Key; Supplier Part Number 1: 296-11305-5-ND; Supplier 2: Newark; Supplier Part Number 2: 77C3360; Supplier 3: Mouser; Supplier Part Number 3: 595-UC3851N; Control Method: Current, Voltage; Eco-Plan: Green (RoHS & no Sb/Br); SubFamily: PWM Controller; UVLO Thresholds On/Off(V): 8/7.8; Mounting Technology: Through Hole; Code_JEDEC: MS-001-AC*; ComponentLink1Description: Datasheet; ComponentLink1URL: http://www.ti.com/general/docs/lit/getliterature.tsp?genericPartNumber=UC3851&fileType=pdf
footprint N18 (DIP, 18-Leads, Row Spacing 7.62mm, Pitch 2.54mm, Body 22.5x6.4mm)
pins: 1 COMP (out), 2 START/UV (in), 3 OV SENSE (in), 4 STOP (in), 5 RESET (in), 6 CUR THRESH (in), 7 CUR SENSE (in), 8 SLOW START (in), 9 RT/CT, 10 RAMP (in), 11 VIN SENSE (in), 12 PWM OUT (out), 13 GROUND (power), 14 DRIVE BIAS (out), 15 +VIN SUPPLY (power), 16 5.0V REF (out), 17 INV INPUT (in), 18 NI INPUT (in)

## UC3851NG4
designator U?
Programmable, Off-Line, PWM Controller with Current, Voltage Control, 50 % Duty Cycle, 0 to +70 degC, 18-pin PDIP (N), Green (RoHS & no Sb/Br); PartNumber: UC3851NG4; Manufacturer: Texas Instruments; Duty Cycle(Max)(%): 50; Frequency(Max)(kHz): 450; Rating: Catalog; Regulated Outputs(#): 1; Topology: Boost, Buck, Flyback, Forward; DatasheetVersion: SLUS226; PackageVersion: revE, Dec-2002; PackageReference: N18; PackageDescription: 18-Pin Plastic Dual-In-Line Package, Row Spacing 7.62 mm, Pitch 2.54 mm; Supplier 1: Digi-Key; Supplier Part Number 1: UC3851NG4-ND; Supplier 2: Newark; Supplier Part Number 2: 80K3542; Supplier 3: Mouser; Supplier Part Number 3: 595-UC3851NG4; Control Method: Current,Voltage; Eco-Plan: Green (RoHS & no Sb/Br); SubFamily: PWM Controller; UVLO Thresholds On/Off(V): 8/7.8; Mounting Technology: Through Hole; Code_JEDEC: MS-001-AC*; ComponentLink1Description: Datasheet; ComponentLink1URL: http://www.ti.com/general/docs/lit/getliterature.tsp?genericPartNumber=UC3851&fileType=pdf
footprint N18 (DIP, 18-Leads, Row Spacing 7.62mm, Pitch 2.54mm, Body 22.5x6.4mm)
pins: 1 COMP (out), 2 START/UV (in), 3 OV SENSE (in), 4 STOP (in), 5 RESET (in), 6 CUR THRESH (in), 7 CUR SENSE (in), 8 SLOW START (in), 9 RT/CT, 10 RAMP (in), 11 VIN SENSE (in), 12 PWM OUT (out), 13 GROUND (power), 14 DRIVE BIAS (out), 15 +VIN SUPPLY (power), 16 5.0V REF (out), 17 INV INPUT (in), 18 NI INPUT (in)

## UC3856DW
designator U?
Improved PWM Controller with Current Control, 50 % Duty Cycle, 0 to +70 degC, 16-pin SOIC (DW), Green (RoHS & no Sb/Br); PartNumber: UC3856DW; Manufacturer: Texas Instruments; Duty Cycle(Max)(%): 50; Frequency(Max)(kHz): 1000; Rating: Catalog; Regulated Outputs(#): 2; Topology: Boost, Buck, Flyback, Forward, Full-Bridge, Half-Bridge, Push-Pull; DatasheetVersion: SLUS227A; PackageVersion: revG, Jan-2011; PackageReference: DW16; PackageDescription: 16-Pin Small Outline Integrated Circuit, 10.3 x 7.5 mm, Pitch 1.27 mm Pitch; Supplier 1: Digi-Key; Supplier Part Number 1: 296-11316-5-ND; Supplier 2: Newark; Supplier Part Number 2: 77C3383; Supplier 3: Mouser; Supplier Part Number 3: 595-UC3856DW; Control Method: Current; Eco-Plan: Green (RoHS & no Sb/Br); SubFamily: PWM Controller; UVLO Thresholds On/Off(V): 7.7/7; Mounting Technology: Surface Mount; Code_JEDEC: MS-013-AA; ComponentLink1Description: Datasheet; ComponentLink1URL: http://www.ti.com/general/docs/lit/getliterature.tsp?genericPartNumber=UC3856&fileType=pdf
footprint DW16_N (SOIC, 16-Leads, Body 10.3x7.5mm, Pitch 1.27mm, IPC Medium Density)
footprint DW16_L (SOIC, 16-Leads, Body 10.3x7.5mm, Pitch 1.27mm, IPC High Density)
footprint DW16_M (SOIC, 16-Leads, Body 10.3x7.5mm, Pitch 1.27mm, IPC Low Density)
pins: 1 CL SS (in), 2 VREF (out), 3 CS- (in), 4 CS+ (in), 5 EA+ (in), 6 EA- (in), 7 COMP (out), 8 CT, 9 RT, 10 SYNC (io), 11 AOUT (out), 12 GND (power), 13 VC (power), 14 BOUT (out), 15 VIN (power), 16 SHUTDOWN (in)

## UC3856DWG4
designator U?
Improved PWM Controller with Current Control, 50 % Duty Cycle, 0 to +70 degC, 16-pin SOIC (DW), Green (RoHS & no Sb/Br); PartNumber: UC3856DWG4; Manufacturer: Texas Instruments; Duty Cycle(Max)(%): 50; Frequency(Max)(kHz): 1000; Rating: Catalog; Regulated Outputs(#): 2; Topology: Boost, Buck, Flyback, Forward, Full-Bridge, Half-Bridge, Push-Pull; DatasheetVersion: SLUS227A; PackageVersion: revG, Jan-2011; PackageReference: DW16; PackageDescription: 16-Pin Small Outline Integrated Circuit, 10.3 x 7.5 mm, Pitch 1.27 mm Pitch; Supplier 1: Digi-Key; Supplier Part Number 1: UC3856DWG4-ND; Supplier 2: Newark; Supplier Part Number 2: 63K6750; Supplier 3: Mouser; Supplier Part Number 3: 595-UC3856DWG4; Control Method: Current; Eco-Plan: Green (RoHS & no Sb/Br); SubFamily: PWM Controller; UVLO Thresholds On/Off(V): 7.7/7; Mounting Technology: Surface Mount; Code_JEDEC: MS-013-AA; ComponentLink1Description: Datasheet; ComponentLink1URL: http://www.ti.com/general/docs/lit/getliterature.tsp?genericPartNumber=UC3856&fileType=pdf
footprint DW16_N (SOIC, 16-Leads, Body 10.3x7.5mm, Pitch 1.27mm, IPC Medium Density)
footprint DW16_L (SOIC, 16-Leads, Body 10.3x7.5mm, Pitch 1.27mm, IPC High Density)
footprint DW16_M (SOIC, 16-Leads, Body 10.3x7.5mm, Pitch 1.27mm, IPC Low Density)
pins: 1 CL SS (in), 2 VREF (out), 3 CS- (in), 4 CS+ (in), 5 EA+ (in), 6 EA- (in), 7 COMP (out), 8 CT, 9 RT, 10 SYNC (io), 11 AOUT (out), 12 GND (power), 13 VC (power), 14 BOUT (out), 15 VIN (power), 16 SHUTDOWN (in)

## UC3856DWTR
designator U?
Improved PWM Controller with Current Control, 50 % Duty Cycle, 0 to +70 degC, 16-pin SOIC (DW), Green (RoHS & no Sb/Br); PartNumber: UC3856DWTR; Manufacturer: Texas Instruments; Duty Cycle(Max)(%): 50; Frequency(Max)(kHz): 1000; Rating: Catalog; Regulated Outputs(#): 2; Topology: Boost, Buck, Flyback, Forward, Full-Bridge, Half-Bridge, Push-Pull; DatasheetVersion: SLUS227A; PackageVersion: revG, Jan-2011; PackageReference: DW16; PackageDescription: 16-Pin Small Outline Integrated Circuit, 10.3 x 7.5 mm, Pitch 1.27 mm Pitch; Supplier 1: Digi-Key; Supplier Part Number 1: UC3856DWTR-ND; Supplier 2: Newark; Supplier Part Number 2: 77C3384; Supplier 3: Mouser; Supplier Part Number 3: 595-UC3856DWTR; Control Method: Current; Eco-Plan: Green (RoHS & no Sb/Br); SubFamily: PWM Controller; UVLO Thresholds On/Off(V): 7.7/7; Mounting Technology: Surface Mount; Code_JEDEC: MS-013-AA; ComponentLink1Description: Datasheet; ComponentLink1URL: http://www.ti.com/general/docs/lit/getliterature.tsp?genericPartNumber=UC3856&fileType=pdf
footprint DW16_N (SOIC, 16-Leads, Body 10.3x7.5mm, Pitch 1.27mm, IPC Medium Density)
footprint DW16_L (SOIC, 16-Leads, Body 10.3x7.5mm, Pitch 1.27mm, IPC High Density)
footprint DW16_M (SOIC, 16-Leads, Body 10.3x7.5mm, Pitch 1.27mm, IPC Low Density)
pins: 1 CL SS (in), 2 VREF (out), 3 CS- (in), 4 CS+ (in), 5 EA+ (in), 6 EA- (in), 7 COMP (out), 8 CT, 9 RT, 10 SYNC (io), 11 AOUT (out), 12 GND (power), 13 VC (power), 14 BOUT (out), 15 VIN (power), 16 SHUTDOWN (in)

## UC3856DWTRG4
designator U?
Improved PWM Controller with Current Control, 50 % Duty Cycle, 0 to +70 degC, 16-pin SOIC (DW), Green (RoHS & no Sb/Br); PartNumber: UC3856DWTRG4; Manufacturer: Texas Instruments; Duty Cycle(Max)(%): 50; Frequency(Max)(kHz): 1000; Rating: Catalog; Regulated Outputs(#): 2; Topology: Boost, Buck, Flyback, Forward, Full-Bridge, Half-Bridge, Push-Pull; DatasheetVersion: SLUS227A; PackageVersion: revG, Jan-2011; PackageReference: DW16; PackageDescription: 16-Pin Small Outline Integrated Circuit, 10.3 x 7.5 mm, Pitch 1.27 mm Pitch; Supplier 1: Digi-Key; Supplier Part Number 1: UC3856DWTRG4-ND; Supplier 2: Newark; Supplier Part Number 2: 63K6751; Supplier 3: Mouser; Supplier Part Number 3: 595-UC3856DWTRG4; Control Method: Current; Eco-Plan: Green (RoHS & no Sb/Br); SubFamily: PWM Controller; UVLO Thresholds On/Off(V): 7.7/7; Mounting Technology: Surface Mount; Code_JEDEC: MS-013-AA; ComponentLink1Description: Datasheet; ComponentLink1URL: http://www.ti.com/general/docs/lit/getliterature.tsp?genericPartNumber=UC3856&fileType=pdf
footprint DW16_N (SOIC, 16-Leads, Body 10.3x7.5mm, Pitch 1.27mm, IPC Medium Density)
footprint DW16_L (SOIC, 16-Leads, Body 10.3x7.5mm, Pitch 1.27mm, IPC High Density)
footprint DW16_M (SOIC, 16-Leads, Body 10.3x7.5mm, Pitch 1.27mm, IPC Low Density)
pins: 1 CL SS (in), 2 VREF (out), 3 CS- (in), 4 CS+ (in), 5 EA+ (in), 6 EA- (in), 7 COMP (out), 8 CT, 9 RT, 10 SYNC (io), 11 AOUT (out), 12 GND (power), 13 VC (power), 14 BOUT (out), 15 VIN (power), 16 SHUTDOWN (in)

## UC3856N
designator U?
Improved PWM Controller with Current Control, 50 % Duty Cycle, 0 to +70 degC, 16-pin PDIP (N), Green (RoHS & no Sb/Br); PartNumber: UC3856N; Manufacturer: Texas Instruments; Duty Cycle(Max)(%): 50; Frequency(Max)(kHz): 1000; Rating: Catalog; Regulated Outputs(#): 2; Topology: Boost, Buck, Flyback, Forward, Full-Bridge, Half-Bridge, Push-Pull; DatasheetVersion: SLUS227A; PackageVersion: revE, Dec-2002; PackageReference: N16; PackageDescription: 16-Pin Plastic Dual-In-Line Package, Row Spacing 7.62 mm, Pitch 2.54 mm; Supplier 1: Digi-Key; Supplier Part Number 1: 296-11317-5-ND; Supplier 2: Farnell; Supplier Part Number 2: 1530350; Supplier 3: Newark; Supplier Part Number 3: 26C0132; Supplier 4: Mouser; Supplier Part Number 4: 595-UC3856N; Control Method: Current; Eco-Plan: Green (RoHS & no Sb/Br); SubFamily: PWM Controller; UVLO Thresholds On/Off(V): 7.7/7; Mounting Technology: Through Hole; Code_JEDEC: MS-001*; ComponentLink1Description: Datasheet; ComponentLink1URL: http://www.ti.com/general/docs/lit/getliterature.tsp?genericPartNumber=UC3856&fileType=pdf
footprint N16 (DIP, 16-Leads, Row Spacing 7.62mm, Pitch 2.54mm, Body 19.3x6.4mm)
pins: 1 CL SS (in), 2 VREF (out), 3 CS- (in), 4 CS+ (in), 5 EA+ (in), 6 EA- (in), 7 COMP (out), 8 CT, 9 RT, 10 SYNC (io), 11 AOUT (out), 12 GND (power), 13 VC (power), 14 BOUT (out), 15 VIN (power), 16 SHUTDOWN (in)

## UC3856NG4
designator U?
Improved PWM Controller with Current Control, 50 % Duty Cycle, 0 to +70 degC, 16-pin PDIP (N), Green (RoHS & no Sb/Br); PartNumber: UC3856NG4; Manufacturer: Texas Instruments; Duty Cycle(Max)(%): 50; Frequency(Max)(kHz): 1000; Rating: Catalog; Regulated Outputs(#): 2; Topology: Boost, Buck, Flyback, Forward, Full-Bridge, Half-Bridge, Push-Pull; DatasheetVersion: SLUS227A; PackageVersion: revE, Dec-2002; PackageReference: N16; PackageDescription: 16-Pin Plastic Dual-In-Line Package, Row Spacing 7.62 mm, Pitch 2.54 mm; Supplier 1: Digi-Key; Supplier Part Number 1: UC3856NG4-ND; Supplier 2: Farnell; Supplier Part Number 2: 1234842; Supplier 3: Newark; Supplier Part Number 3: 13M3404; Supplier 4: Newark; Supplier Part Number 4: 54K2344; Supplier 5: Mouser; Supplier Part Number 5: 595-UC3856NG4; Control Method: Current; Eco-Plan: Green (RoHS & no Sb/Br); SubFamily: PWM Controller; UVLO Thresholds On/Off(V): 7.7/7; Mounting Technology: Through Hole; Code_JEDEC: MS-001*; ComponentLink1Description: Datasheet; ComponentLink1URL: http://www.ti.com/general/docs/lit/getliterature.tsp?genericPartNumber=UC3856&fileType=pdf
footprint N16 (DIP, 16-Leads, Row Spacing 7.62mm, Pitch 2.54mm, Body 19.3x6.4mm)
pins: 1 CL SS (in), 2 VREF (out), 3 CS- (in), 4 CS+ (in), 5 EA+ (in), 6 EA- (in), 7 COMP (out), 8 CT, 9 RT, 10 SYNC (io), 11 AOUT (out), 12 GND (power), 13 VC (power), 14 BOUT (out), 15 VIN (power), 16 SHUTDOWN (in)

## UC3856Q
designator U?
Improved PWM Controller with Current Control, 50 % Duty Cycle, 0 to +70 degC, 20-pin PLCC (FN), Green (RoHS & no Sb/Br); PartNumber: UC3856Q; Manufacturer: Texas Instruments; Duty Cycle(Max)(%): 50; Frequency(Max)(kHz): 1000; Rating: Catalog; Regulated Outputs(#): 2; Topology: Boost, Buck, Flyback, Forward, Full-Bridge, Half-Bridge, Push-Pull; DatasheetVersion: SLUS227A; PackageVersion: revB, Mar-1995; PackageReference: FN20; PackageDescription: 20-Pin Plastic Leaded Chip Carrier, 1.27 mm Pitch; Supplier 1: Digi-Key; Supplier Part Number 1: 296-34740-5-ND; Supplier 2: Newark; Supplier Part Number 2: 77C3385; Supplier 3: Mouser; Supplier Part Number 3: 595-UC3856Q; Control Method: Current; Eco-Plan: Green (RoHS & no Sb/Br); SubFamily: PWM Controller; UVLO Thresholds On/Off(V): 7.7/7; Mounting Technology: Surface Mount; Code_JEDEC: MS-018; ComponentLink1Description: Datasheet; ComponentLink1URL: http://www.ti.com/general/docs/lit/getliterature.tsp?genericPartNumber=UC3856&fileType=pdf
footprint FN20_N (Leaded Chip Carrier, 20-Leads, Body 9x9mm, Pitch 1.27mm, IPC Medium Density)
footprint FN20_L (Leaded Chip Carrier, 20-Leads, Body 9x9mm, Pitch 1.27mm, IPC High Density)
footprint FN20_M (Leaded Chip Carrier, 20-Leads, Body 9x9mm, Pitch 1.27mm, IPC Low Density)
pins: 1 NC, 2 CL SS (in), 3 VREF (out), 4 CS- (in), 5 CS+ (in), 6 NC, 7 EA+ (in), 8 EA- (in), 9 COMP, 10 CT, 11 NC, 12 RT, 13 SYNC (io), 14 A OUT (out), 15 GND (power), 16 NC, 17 VC (power), 18 B OUT (out), 19 VIN (power), 20 SHUTDOWN (in)

## UC3856QG3
designator U?
Improved PWM Controller with Current Control, 50 % Duty Cycle, 0 to +70 degC, 20-pin PLCC (FN), Green (RoHS & no Sb/Br); PartNumber: UC3856QG3; Manufacturer: Texas Instruments; Duty Cycle(Max)(%): 50; Frequency(Max)(kHz): 1000; Rating: Catalog; Regulated Outputs(#): 2; Topology: Boost, Buck, Flyback, Forward, Full-Bridge, Half-Bridge, Push-Pull; DatasheetVersion: SLUS227A; PackageVersion: revB, Mar-1995; PackageReference: FN20; PackageDescription: 20-Pin Plastic Leaded Chip Carrier, 1.27 mm Pitch; Supplier 1: Digi-Key; Supplier Part Number 1: UC3856QG3-ND; Supplier 2: Newark; Supplier Part Number 2: 70K6026; Supplier 3: Mouser; Supplier Part Number 3: 595-UC3856QG3; Control Method: Current; Eco-Plan: Green (RoHS & no Sb/Br); SubFamily: PWM Controller; UVLO Thresholds On/Off(V): 7.7/7; Mounting Technology: Surface Mount; Code_JEDEC: MS-018; ComponentLink1Description: Datasheet; ComponentLink1URL: http://www.ti.com/general/docs/lit/getliterature.tsp?genericPartNumber=UC3856&fileType=pdf
footprint FN20_N (Leaded Chip Carrier, 20-Leads, Body 9x9mm, Pitch 1.27mm, IPC Medium Density)
footprint FN20_L (Leaded Chip Carrier, 20-Leads, Body 9x9mm, Pitch 1.27mm, IPC High Density)
footprint FN20_M (Leaded Chip Carrier, 20-Leads, Body 9x9mm, Pitch 1.27mm, IPC Low Density)
pins: 1 NC, 2 CL SS (in), 3 VREF (out), 4 CS- (in), 5 CS+ (in), 6 NC, 7 EA+ (in), 8 EA- (in), 9 COMP, 10 CT, 11 NC, 12 RT, 13 SYNC (io), 14 A OUT (out), 15 GND (power), 16 NC, 17 VC (power), 18 B OUT (out), 19 VIN (power), 20 SHUTDOWN (in)